# Altium integrated library HSS09_HEATSINK.IntLib: 1 symbol
Pins are listed as number, name and electrical type; pins without a type are passive.

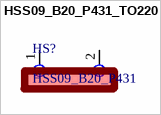
[diagram p0: symbol HSS09_B20_P431_TO220]

## HSS09_B20_P431_TO220
designator HS?, comment HSS09_B20_P431
Heat Sink TO220 Aluminium Alloy 4.0W @ 75 degrees celcius; Value: *; Availability: Warning; Price: None; Supplier 1: DigiKey; Supplier Part Number 1: 2223-HSS09-B20-P431-ND
footprint HSS09
pins: 1, 2